# EAGLE library part LTC3490 (library PowerProducts)
LT-Spice library generated with : ltspice.ulp from: D:/Program Files (x86)/LTC/LTspiceIV/lib/sym/PowerProducts/LTC3499*.asy at 07.10.2012 18:10:54
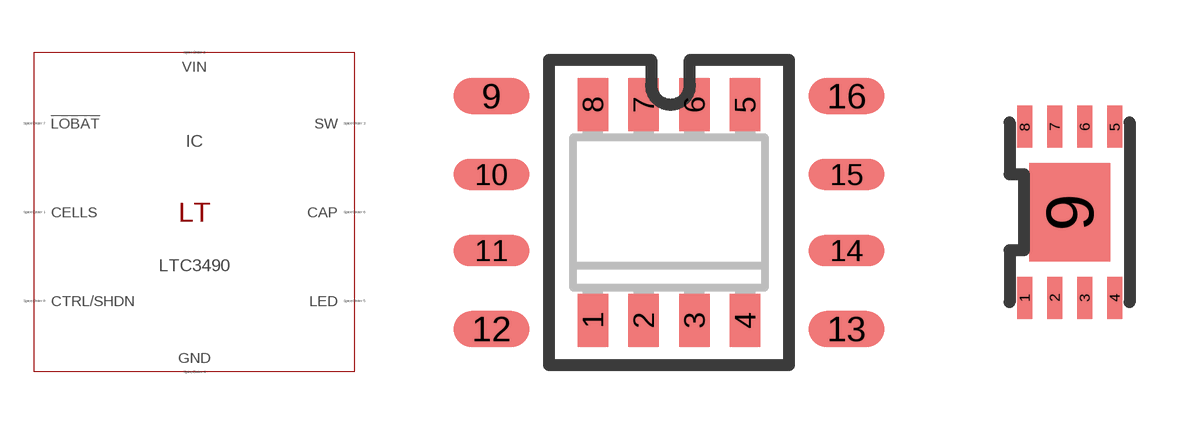
[diagram p195: symbol with the pads of SO8(S8); footprints SO8(S8), DFN8(DD)]

Designator prefix IC

## LTC3490S8 (SPICEMODEL: LTC3490.sub; SPICEPREFIX: X; VALUE2: LTC3490)  [SO8(S8)]
1  CELLS  pas
2  VIN  pas
3  SW  pas
4  GND  pas
5  LED  pas
6  CAP  pas
7  !LOBAT  pas
8  CTRL/SHDN  pas

## LTC3490 (SPICEMODEL: LTC3490.sub; SPICEPREFIX: X; VALUE2: LTC3490)  [DFN8(DD)]
1  CELLS  pas
2  VIN  pas
3  SW  pas
4  GND  pas
5  LED  pas
6  CAP  pas
7  !LOBAT  pas
8  CTRL/SHDN  pas
9  GND  pas

## Footprint SO8(S8) (pad centres in mm)
Package generated from: SO8(S8).asc (!PADS-POWERPCB-V5.0-BASIC! DESIGN DATABASE ASCII FILE 1.0) with :import-pads-powerpcb-v5.ulp Version 1.0.1 at 04.10.2012 14:11:34
smd 0.762 x 1.321: 1 -1.905,-2.701; 2 -0.635,-2.701; 3 0.635,-2.701; 4 1.905,-2.701; 5 1.905,2.701; 6 0.635,2.701; 7 -0.635,2.701; 8 -1.905,2.701
smd 1.905 x 0.9: 9 -4.445,2.917; 12 -4.445,-2.917; 13 4.445,-2.917; 16 4.445,2.917
smd 1.905 x 0.78: 10 -4.445,0.953; 11 -4.445,-0.953; 14 4.445,-0.953; 15 4.445,0.953

## Footprint DFN8(DD) (pad centres in mm)
Package generated from: DFN8(DD).asc (!PADS-POWERPCB-V5.0-BASIC! DESIGN DATABASE ASCII FILE 1.0) with :import-pads-powerpcb-v5.ulp Version 1.0.1 at 04.10.2012 14:11:17
smd 0.375 x 1.05: 1 -1.125,-2.138; 2 -0.375,-2.138; 3 0.375,-2.138; 4 1.125,-2.138; 5 1.125,2.138; 6 0.375,2.138; 7 -0.375,2.138; 8 -1.125,2.138
smd 2.025 x 2.475: 9 0,0